# EAGLE library part MMA8451QT (library mma8451qt)
Freescale MMA8451QT 3-Axis Accelerometer IC, 1.95 ??? 3.6 V 16-pin QFN Source: Datasheet <http://www.nxp.com/docs/en/data-sheet/MMA8451Q.pdf>
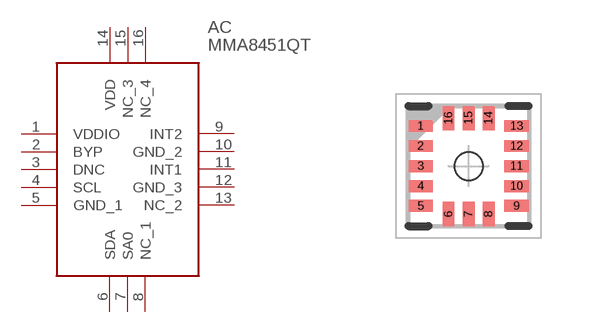
[diagram p0: symbol with the pads of PQFN50P300X300X100-16N; footprint PQFN50P300X300X100-16N]

Designator prefix AC

## MMA8451QT (Description: Freescale MMA8451QT 3-Axis Accelerometer IC, 1.95 ??? 3.6 V 16-pin QFN; Height: 1mm; Manufacturer_Name: NXP; Manufacturer_Part_Number: mma8451qt; Mouser_Part_Number: 841-MMA8451QT; Mouser_Price-Stock: https://www.mouser.co.uk/ProductDetail/NXP-Semiconductors/MMA8451QT?qs=nf24X8JpkflIa2CupKIQ%252BA%3D%3D)  [PQFN50P300X300X100-16N]
1  VDDIO  pwr
2  BYP
3  DNC
4  SCL
5  GND_1  pwr
6  SDA
7  SA0
8  NC_1
9  INT2  in
10  GND_2  pwr
11  INT1  in
12  GND_3  pwr
13  NC_2
14  VDD  pwr
15  NC_3
16  NC_4

## Footprint PQFN50P300X300X100-16N (pad centres in mm)
(QFN-COL)0.5pitch(3x3x1)
smd 0.6 x 0.3: 1 -1.2,1; 2 -1.2,0.5; 3 -1.2,0; 4 -1.2,-0.5; 5 -1.2,-1; 9 1.2,-1; 10 1.2,-0.5; 11 1.2,0; 12 1.2,0.5; 13 1.2,1
smd 0.3 x 0.6: 6 -0.5,-1.2; 7 0,-1.2; 8 0.5,-1.2; 14 0.5,1.2; 15 0,1.2; 16 -0.5,1.2